# Altium integrated library Microchip Microcontroller 8-Bit PIC18.IntLib: 1312 symbols (part 10 of 56)
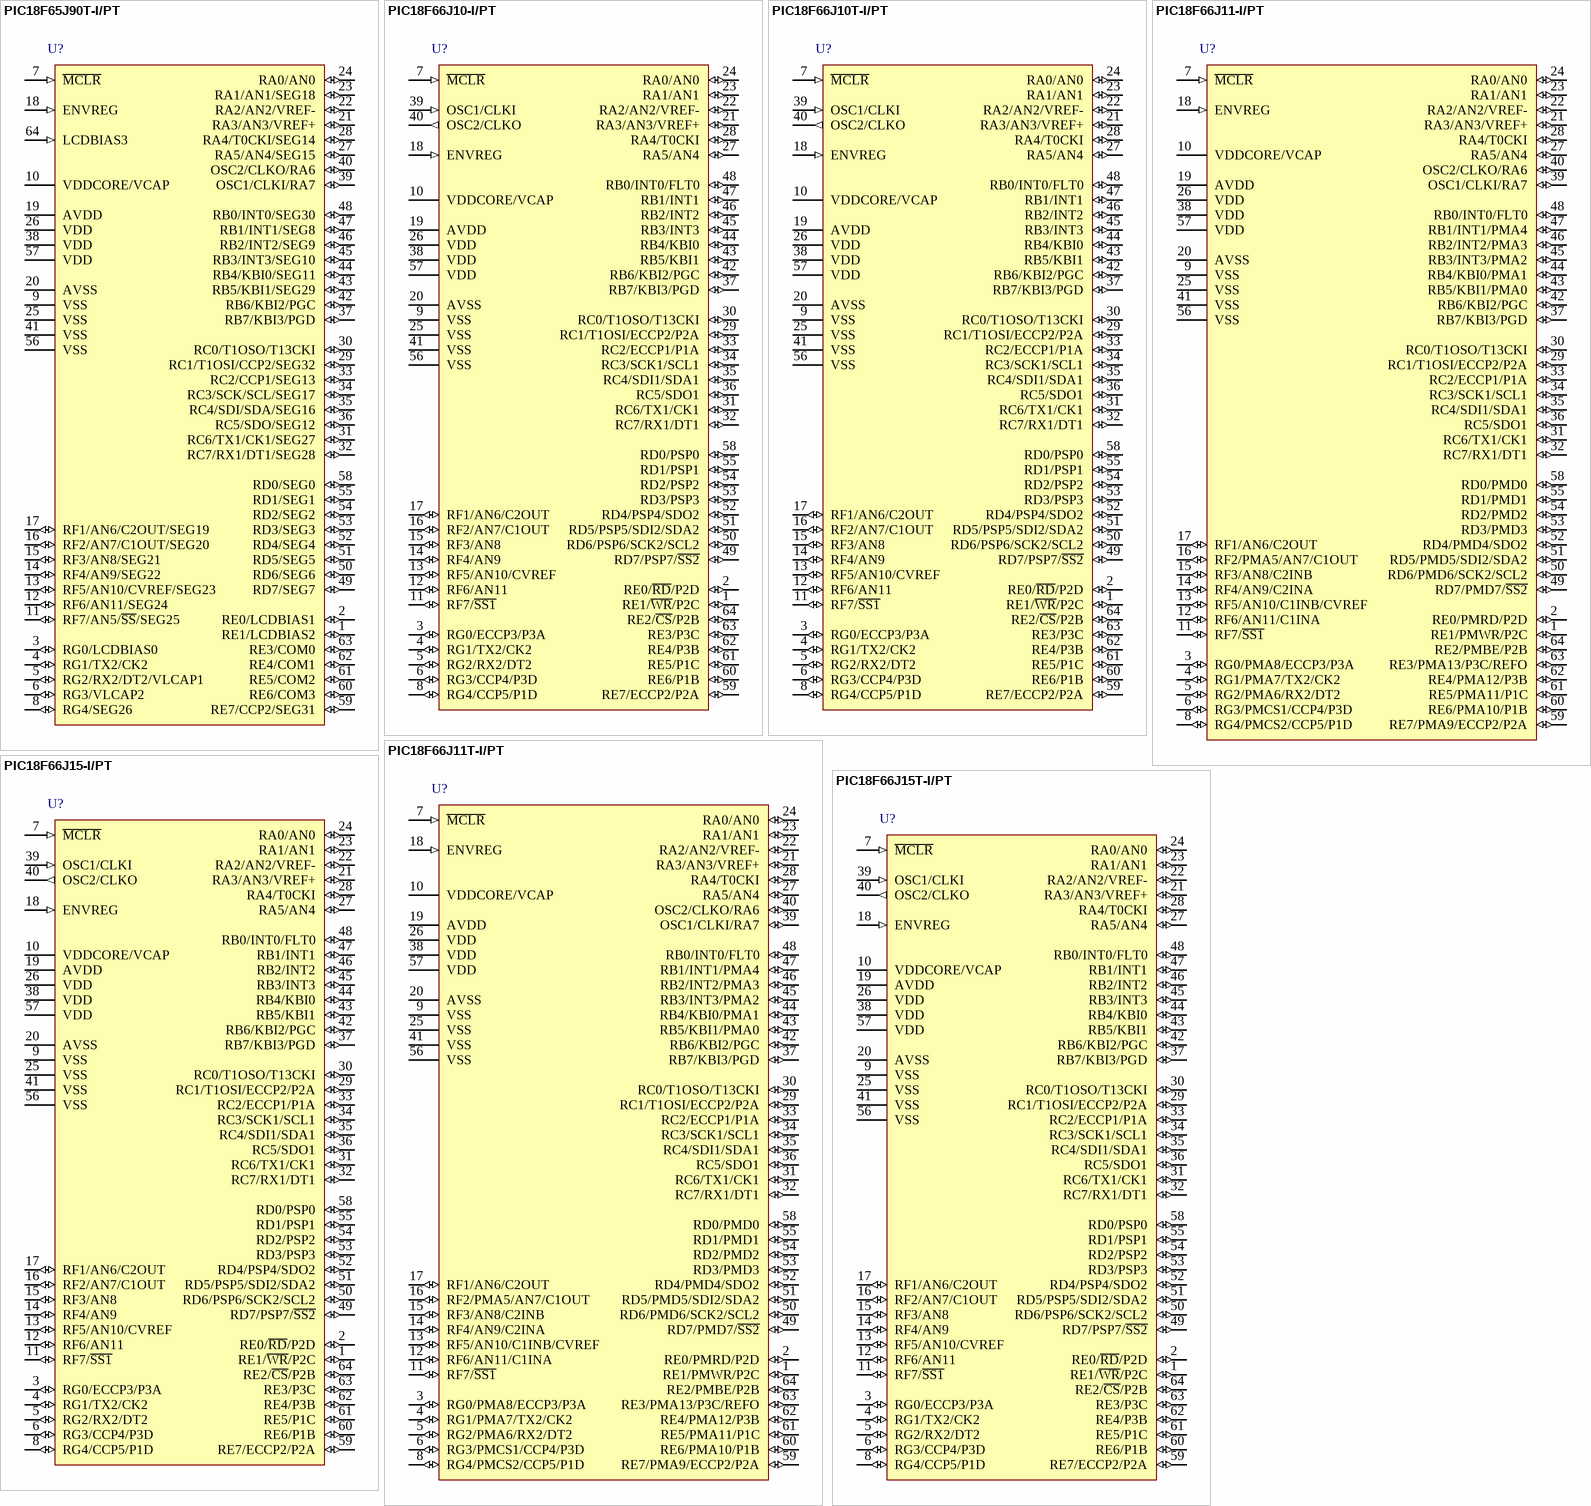
[diagram p158: symbols PIC18F65J90T-I/PT to PIC18F66J15T-I/PT]

## PIC18F65J90T-I/PT
designator U?
High Performance Microcontroller with LCD Driver and nanoWatt Technology, 32K Flash, 64-Pin TQFP, Industrial Temperature Range, Tape and Reel; Published: 29-Jan-2009; DatasheetVersion: revB, Mar-2007; PackageVersion: revBB, Aug-2009; PackageReference: TQFP-PT64; Publisher: Altium Limited; PackageDescription: 64-Lead Thin Plastic Quad Flat Pack (PT) - 10x10x1mm Body, 2.00mm [TQFP]; Supplier 1: Digi-Key; Supplier Part Number 1: PIC18F65J90T-I/PTTR-ND; Supplier 2: Farnell; Supplier Part Number 2: 1640088; Code_JEDEC: MS-026; ComponentLink1Description: Datasheet; ComponentLink1URL: http://ww1.microchip.com/downloads/en/DeviceDoc/39770b.pdf; ComponentLink2Description: Packaging Specification; ComponentLink2URL: http://www.microchip.com/stellent/groups/techpub_sg/documents/packagingspec/en012702.pdf; ComponentLink3Description: Microchip.com Home; ComponentLink3URL: http://www.microchip.com/
footprint TQFP-PT64_N (Thin QFP, 64-Leads, Body 10x10mm, Pitch 0.5mm, IPC Medium Density)
footprint TQFP-PT64_L (Thin QFP, 64-Leads, Body 10x10mm, Pitch 0.5mm, IPC High Density)
footprint TQFP-PT64_M (Thin QFP, 64-Leads, Body 10x10mm, Pitch 0.5mm, IPC Low Density)
pins: 1 RE1/LCDBIAS2 (io), 2 RE0/LCDBIAS1 (io), 3 RG0/LCDBIAS0 (io), 4 RG1/TX2/CK2 (io), 5 RG2/RX2/DT2/VLCAP1 (io), 6 RG3/VLCAP2 (io), 7 ~{MCLR} (in), 8 RG4/SEG26 (io), 9 VSS (power), 10 VDDCORE/VCAP (power), 11 RF7/AN5/~{SS}/SEG25 (io), 12 RF6/AN11/SEG24 (io), 13 RF5/AN10/CVREF/SEG23 (io), 14 RF4/AN9/SEG22 (io), 15 RF3/AN8/SEG21 (io), 16 RF2/AN7/C1OUT/SEG20 (io), 17 RF1/AN6/C2OUT/SEG19 (io), 18 ENVREG (in), 19 AVDD (power), 20 AVSS (power), 21 RA3/AN3/VREF+ (io), 22 RA2/AN2/VREF- (io), 23 RA1/AN1/SEG18 (io), 24 RA0/AN0 (io), 25 VSS (power), 26 VDD (power), 27 RA5/AN4/SEG15 (io), 28 RA4/T0CKI/SEG14 (io), 29 RC1/T1OSI/CCP2/SEG32 (io), 30 RC0/T1OSO/T13CKI (io), 31 RC6/TX1/CK1/SEG27 (io), 32 RC7/RX1/DT1/SEG28 (io), 33 RC2/CCP1/SEG13 (io), 34 RC3/SCK/SCL/SEG17 (io), 35 RC4/SDI/SDA/SEG16 (io), 36 RC5/SDO/SEG12 (io), 37 RB7/KBI3/PGD (io), 38 VDD (power), 39 OSC1/CLKI/RA7 (io), 40 OSC2/CLKO/RA6 (io), 41 VSS (power), 42 RB6/KBI2/PGC (io), 43 RB5/KBI1/SEG29 (io), 44 RB4/KBI0/SEG11 (io), 45 RB3/INT3/SEG10 (io), 46 RB2/INT2/SEG9 (io), 47 RB1/INT1/SEG8 (io), 48 RB0/INT0/SEG30 (io), 49 RD7/SEG7 (io), 50 RD6/SEG6 (io), 51 RD5/SEG5 (io), 52 RD4/SEG4 (io), 53 RD3/SEG3 (io), 54 RD2/SEG2 (io), 55 RD1/SEG1 (io), 56 VSS (power), 57 VDD (power), 58 RD0/SEG0 (io), 59 RE7/CCP2/SEG31 (io), 60 RE6/COM3 (io), 61 RE5/COM2 (io), 62 RE4/COM1 (io), 63 RE3/COM0 (io), 64 LCDBIAS3 (in)

## PIC18F66J10-I/PT
designator U?
High Performance, 1-Mbit Flash Microcontroller with nanoWatt Technology, 64K Flash, 64-Pin TQFP, Industrial Temperature Range; Published: 29-Jan-2009; LatestRevisionDate: 02-Dec-2009; LatestRevisionNote: Updated to datasheet revision F, Sep-2009; DatasheetVersion: revF, Sep-2009; PackageVersion: revBB, Aug-2009; PackageReference: TQFP-PT64; Publisher: Altium Limited; PackageDescription: 64-Lead Thin Plastic Quad Flat Pack (PT) - 10x10x1mm Body, 2.00mm [TQFP]; Supplier 1: Digi-Key; Supplier Part Number 1: PIC18F66J10-I/PT-ND; Supplier 2: Farnell; Supplier Part Number 2: 1332281; Code_JEDEC: MS-026; ComponentLink1Description: Datasheet; ComponentLink1URL: http://ww1.microchip.com/downloads/en/DeviceDoc/39663f.pdf; ComponentLink2Description: Packaging Specification; ComponentLink2URL: http://www.microchip.com/stellent/groups/techpub_sg/documents/packagingspec/en012702.pdf; ComponentLink3Description: Microchip.com Home; ComponentLink3URL: http://www.microchip.com/
footprint TQFP-PT64_N (Thin QFP, 64-Leads, Body 10x10mm, Pitch 0.5mm, IPC Medium Density)
footprint TQFP-PT64_L (Thin QFP, 64-Leads, Body 10x10mm, Pitch 0.5mm, IPC High Density)
footprint TQFP-PT64_M (Thin QFP, 64-Leads, Body 10x10mm, Pitch 0.5mm, IPC Low Density)
pins: 1 RE1/~{WR}/P2C (io), 2 RE0/~{RD}/P2D (io), 3 RG0/ECCP3/P3A (io), 4 RG1/TX2/CK2 (io), 5 RG2/RX2/DT2 (io), 6 RG3/CCP4/P3D (io), 7 ~{MCLR} (in), 8 RG4/CCP5/P1D (io), 9 VSS (power), 10 VDDCORE/VCAP (power), 11 RF7/~{SS1} (io), 12 RF6/AN11 (io), 13 RF5/AN10/CVREF (io), 14 RF4/AN9 (io), 15 RF3/AN8 (io), 16 RF2/AN7/C1OUT (io), 17 RF1/AN6/C2OUT (io), 18 ENVREG (in), 19 AVDD (power), 20 AVSS (power), 21 RA3/AN3/VREF+ (io), 22 RA2/AN2/VREF- (io), 23 RA1/AN1 (io), 24 RA0/AN0 (io), 25 VSS (power), 26 VDD (power), 27 RA5/AN4 (io), 28 RA4/T0CKI (io), 29 RC1/T1OSI/ECCP2/P2A (io), 30 RC0/T1OSO/T13CKI (io), 31 RC6/TX1/CK1 (io), 32 RC7/RX1/DT1 (io), 33 RC2/ECCP1/P1A (io), 34 RC3/SCK1/SCL1 (io), 35 RC4/SDI1/SDA1 (io), 36 RC5/SDO1 (io), 37 RB7/KBI3/PGD (io), 38 VDD (power), 39 OSC1/CLKI (in), 40 OSC2/CLKO (out), 41 VSS (power), 42 RB6/KBI2/PGC (io), 43 RB5/KBI1 (io), 44 RB4/KBI0 (io), 45 RB3/INT3 (io), 46 RB2/INT2 (io), 47 RB1/INT1 (io), 48 RB0/INT0/FLT0 (io), 49 RD7/PSP7/~{SS2} (io), 50 RD6/PSP6/SCK2/SCL2 (io), 51 RD5/PSP5/SDI2/SDA2 (io), 52 RD4/PSP4/SDO2 (io), 53 RD3/PSP3 (io), 54 RD2/PSP2 (io), 55 RD1/PSP1 (io), 56 VSS (power), 57 VDD (power), 58 RD0/PSP0 (io), 59 RE7/ECCP2/P2A (io), 60 RE6/P1B (io), 61 RE5/P1C (io), 62 RE4/P3B (io), 63 RE3/P3C (io), 64 RE2/~{CS}/P2B (io)

## PIC18F66J10T-I/PT
designator U?
High Performance, 1-Mbit Flash Microcontroller with nanoWatt Technology, 64K Flash, 64-Pin TQFP, Industrial Temperature Range, Tape and Reel; Published: 29-Jan-2009; LatestRevisionDate: 02-Dec-2009; LatestRevisionNote: Updated to datasheet revision F, Sep-2009; DatasheetVersion: revF, Sep-2009; PackageVersion: revBB, Aug-2009; PackageReference: TQFP-PT64; Publisher: Altium Limited; PackageDescription: 64-Lead Thin Plastic Quad Flat Pack (PT) - 10x10x1mm Body, 2.00mm [TQFP]; Supplier 1: Digi-Key; Supplier Part Number 1: PIC18F66J10T-I/PTTR-ND; Supplier 2: Digi-Key; Supplier Part Number 2: PIC18F66J10T-I/PTCT-ND; Code_JEDEC: MS-026; ComponentLink1Description: Datasheet; ComponentLink1URL: http://ww1.microchip.com/downloads/en/DeviceDoc/39663f.pdf; ComponentLink2Description: Packaging Specification; ComponentLink2URL: http://www.microchip.com/stellent/groups/techpub_sg/documents/packagingspec/en012702.pdf; ComponentLink3Description: Microchip.com Home; ComponentLink3URL: http://www.microchip.com/
footprint TQFP-PT64_N (Thin QFP, 64-Leads, Body 10x10mm, Pitch 0.5mm, IPC Medium Density)
footprint TQFP-PT64_L (Thin QFP, 64-Leads, Body 10x10mm, Pitch 0.5mm, IPC High Density)
footprint TQFP-PT64_M (Thin QFP, 64-Leads, Body 10x10mm, Pitch 0.5mm, IPC Low Density)
pins: 1 RE1/~{WR}/P2C (io), 2 RE0/~{RD}/P2D (io), 3 RG0/ECCP3/P3A (io), 4 RG1/TX2/CK2 (io), 5 RG2/RX2/DT2 (io), 6 RG3/CCP4/P3D (io), 7 ~{MCLR} (in), 8 RG4/CCP5/P1D (io), 9 VSS (power), 10 VDDCORE/VCAP (power), 11 RF7/~{SS1} (io), 12 RF6/AN11 (io), 13 RF5/AN10/CVREF (io), 14 RF4/AN9 (io), 15 RF3/AN8 (io), 16 RF2/AN7/C1OUT (io), 17 RF1/AN6/C2OUT (io), 18 ENVREG (in), 19 AVDD (power), 20 AVSS (power), 21 RA3/AN3/VREF+ (io), 22 RA2/AN2/VREF- (io), 23 RA1/AN1 (io), 24 RA0/AN0 (io), 25 VSS (power), 26 VDD (power), 27 RA5/AN4 (io), 28 RA4/T0CKI (io), 29 RC1/T1OSI/ECCP2/P2A (io), 30 RC0/T1OSO/T13CKI (io), 31 RC6/TX1/CK1 (io), 32 RC7/RX1/DT1 (io), 33 RC2/ECCP1/P1A (io), 34 RC3/SCK1/SCL1 (io), 35 RC4/SDI1/SDA1 (io), 36 RC5/SDO1 (io), 37 RB7/KBI3/PGD (io), 38 VDD (power), 39 OSC1/CLKI (in), 40 OSC2/CLKO (out), 41 VSS (power), 42 RB6/KBI2/PGC (io), 43 RB5/KBI1 (io), 44 RB4/KBI0 (io), 45 RB3/INT3 (io), 46 RB2/INT2 (io), 47 RB1/INT1 (io), 48 RB0/INT0/FLT0 (io), 49 RD7/PSP7/~{SS2} (io), 50 RD6/PSP6/SCK2/SCL2 (io), 51 RD5/PSP5/SDI2/SDA2 (io), 52 RD4/PSP4/SDO2 (io), 53 RD3/PSP3 (io), 54 RD2/PSP2 (io), 55 RD1/PSP1 (io), 56 VSS (power), 57 VDD (power), 58 RD0/PSP0 (io), 59 RE7/ECCP2/P2A (io), 60 RE6/P1B (io), 61 RE5/P1C (io), 62 RE4/P3B (io), 63 RE3/P3C (io), 64 RE2/~{CS}/P2B (io)

## PIC18F66J11-I/PT
designator U?
High Performance, 1-Mbit Flash Microcontroller with nanoWatt Technology, 64K Flash, 64-Pin TQFP, Industrial Temperature Range; Published: 29-Jan-2009; LatestRevisionDate: 02-Dec-2009; LatestRevisionNote: Updated to datasheet revision D, Oct-2009; DatasheetVersion: revD, Oct-2009; PackageVersion: revBB, Aug-2009; PackageReference: TQFP-PT64; Publisher: Altium Limited; PackageDescription: 64-Lead Thin Plastic Quad Flat Pack (PT) - 10x10x1mm Body, 2.00mm [TQFP]; Supplier 1: Digi-Key; Supplier Part Number 1: PIC18F66J11-I/PT-ND; Code_JEDEC: MS-026; ComponentLink1Description: Datasheet; ComponentLink1URL: http://ww1.microchip.com/downloads/en/DeviceDoc/39778d.pdf; ComponentLink2Description: Packaging Specification; ComponentLink2URL: http://www.microchip.com/stellent/groups/techpub_sg/documents/packagingspec/en012702.pdf; ComponentLink3Description: Microchip.com Home; ComponentLink3URL: http://www.microchip.com/
footprint TQFP-PT64_N (Thin QFP, 64-Leads, Body 10x10mm, Pitch 0.5mm, IPC Medium Density)
footprint TQFP-PT64_L (Thin QFP, 64-Leads, Body 10x10mm, Pitch 0.5mm, IPC High Density)
footprint TQFP-PT64_M (Thin QFP, 64-Leads, Body 10x10mm, Pitch 0.5mm, IPC Low Density)
pins: 1 RE1/PMWR/P2C (io), 2 RE0/PMRD/P2D (io), 3 RG0/PMA8/ECCP3/P3A (io), 4 RG1/PMA7/TX2/CK2 (io), 5 RG2/PMA6/RX2/DT2 (io), 6 RG3/PMCS1/CCP4/P3D (io), 7 ~{MCLR} (in), 8 RG4/PMCS2/CCP5/P1D (io), 9 VSS (power), 10 VDDCORE/VCAP (power), 11 RF7/~{SS1} (io), 12 RF6/AN11/C1INA (io), 13 RF5/AN10/C1INB/CVREF (io), 14 RF4/AN9/C2INA (io), 15 RF3/AN8/C2INB (io), 16 RF2/PMA5/AN7/C1OUT (io), 17 RF1/AN6/C2OUT (io), 18 ENVREG (in), 19 AVDD (power), 20 AVSS (power), 21 RA3/AN3/VREF+ (io), 22 RA2/AN2/VREF- (io), 23 RA1/AN1 (io), 24 RA0/AN0 (io), 25 VSS (power), 26 VDD (power), 27 RA5/AN4 (io), 28 RA4/T0CKI (io), 29 RC1/T1OSI/ECCP2/P2A (io), 30 RC0/T1OSO/T13CKI (io), 31 RC6/TX1/CK1 (io), 32 RC7/RX1/DT1 (io), 33 RC2/ECCP1/P1A (io), 34 RC3/SCK1/SCL1 (io), 35 RC4/SDI1/SDA1 (io), 36 RC5/SDO1 (io), 37 RB7/KBI3/PGD (io), 38 VDD (power), 39 OSC1/CLKI/RA7 (io), 40 OSC2/CLKO/RA6 (io), 41 VSS (power), 42 RB6/KBI2/PGC (io), 43 RB5/KBI1/PMA0 (io), 44 RB4/KBI0/PMA1 (io), 45 RB3/INT3/PMA2 (io), 46 RB2/INT2/PMA3 (io), 47 RB1/INT1/PMA4 (io), 48 RB0/INT0/FLT0 (io), 49 RD7/PMD7/~{SS2} (io), 50 RD6/PMD6/SCK2/SCL2 (io), 51 RD5/PMD5/SDI2/SDA2 (io), 52 RD4/PMD4/SDO2 (io), 53 RD3/PMD3 (io), 54 RD2/PMD2 (io), 55 RD1/PMD1 (io), 56 VSS (power), 57 VDD (power), 58 RD0/PMD0 (io), 59 RE7/PMA9/ECCP2/P2A (io), 60 RE6/PMA10/P1B (io), 61 RE5/PMA11/P1C (io), 62 RE4/PMA12/P3B (io), 63 RE3/PMA13/P3C/REFO (io), 64 RE2/PMBE/P2B (io)

## PIC18F66J11T-I/PT
designator U?
High Performance, 1-Mbit Flash Microcontroller with nanoWatt Technology, 64K Flash, 64-Pin TQFP, Industrial Temperature Range, Tape and Reel; Published: 29-Jan-2009; LatestRevisionDate: 02-Dec-2009; LatestRevisionNote: Updated to datasheet revision D, Oct-2009; DatasheetVersion: revD, Oct-2009; PackageVersion: revBB, Aug-2009; PackageReference: TQFP-PT64; Publisher: Altium Limited; PackageDescription: 64-Lead Thin Plastic Quad Flat Pack (PT) - 10x10x1mm Body, 2.00mm [TQFP]; Supplier 1: Digi-Key; Supplier Part Number 1: PIC18F66J11T-I/PTTR-ND; Supplier 2: Farnell; Supplier Part Number 2: 1439554; Code_JEDEC: MS-026; ComponentLink1Description: Datasheet; ComponentLink1URL: http://ww1.microchip.com/downloads/en/DeviceDoc/39778d.pdf; ComponentLink2Description: Packaging Specification; ComponentLink2URL: http://www.microchip.com/stellent/groups/techpub_sg/documents/packagingspec/en012702.pdf; ComponentLink3Description: Microchip.com Home; ComponentLink3URL: http://www.microchip.com/
footprint TQFP-PT64_N (Thin QFP, 64-Leads, Body 10x10mm, Pitch 0.5mm, IPC Medium Density)
footprint TQFP-PT64_L (Thin QFP, 64-Leads, Body 10x10mm, Pitch 0.5mm, IPC High Density)
footprint TQFP-PT64_M (Thin QFP, 64-Leads, Body 10x10mm, Pitch 0.5mm, IPC Low Density)
pins: 1 RE1/PMWR/P2C (io), 2 RE0/PMRD/P2D (io), 3 RG0/PMA8/ECCP3/P3A (io), 4 RG1/PMA7/TX2/CK2 (io), 5 RG2/PMA6/RX2/DT2 (io), 6 RG3/PMCS1/CCP4/P3D (io), 7 ~{MCLR} (in), 8 RG4/PMCS2/CCP5/P1D (io), 9 VSS (power), 10 VDDCORE/VCAP (power), 11 RF7/~{SS1} (io), 12 RF6/AN11/C1INA (io), 13 RF5/AN10/C1INB/CVREF (io), 14 RF4/AN9/C2INA (io), 15 RF3/AN8/C2INB (io), 16 RF2/PMA5/AN7/C1OUT (io), 17 RF1/AN6/C2OUT (io), 18 ENVREG (in), 19 AVDD (power), 20 AVSS (power), 21 RA3/AN3/VREF+ (io), 22 RA2/AN2/VREF- (io), 23 RA1/AN1 (io), 24 RA0/AN0 (io), 25 VSS (power), 26 VDD (power), 27 RA5/AN4 (io), 28 RA4/T0CKI (io), 29 RC1/T1OSI/ECCP2/P2A (io), 30 RC0/T1OSO/T13CKI (io), 31 RC6/TX1/CK1 (io), 32 RC7/RX1/DT1 (io), 33 RC2/ECCP1/P1A (io), 34 RC3/SCK1/SCL1 (io), 35 RC4/SDI1/SDA1 (io), 36 RC5/SDO1 (io), 37 RB7/KBI3/PGD (io), 38 VDD (power), 39 OSC1/CLKI/RA7 (io), 40 OSC2/CLKO/RA6 (io), 41 VSS (power), 42 RB6/KBI2/PGC (io), 43 RB5/KBI1/PMA0 (io), 44 RB4/KBI0/PMA1 (io), 45 RB3/INT3/PMA2 (io), 46 RB2/INT2/PMA3 (io), 47 RB1/INT1/PMA4 (io), 48 RB0/INT0/FLT0 (io), 49 RD7/PMD7/~{SS2} (io), 50 RD6/PMD6/SCK2/SCL2 (io), 51 RD5/PMD5/SDI2/SDA2 (io), 52 RD4/PMD4/SDO2 (io), 53 RD3/PMD3 (io), 54 RD2/PMD2 (io), 55 RD1/PMD1 (io), 56 VSS (power), 57 VDD (power), 58 RD0/PMD0 (io), 59 RE7/PMA9/ECCP2/P2A (io), 60 RE6/PMA10/P1B (io), 61 RE5/PMA11/P1C (io), 62 RE4/PMA12/P3B (io), 63 RE3/PMA13/P3C/REFO (io), 64 RE2/PMBE/P2B (io)

## PIC18F66J15-I/PT
designator U?
High Performance, 1-Mbit Flash Microcontroller with nanoWatt Technology, 96K Flash, 64-Pin TQFP, Industrial Temperature Range; Published: 29-Jan-2009; LatestRevisionDate: 02-Dec-2009; LatestRevisionNote: Updated to datasheet revision F, Sep-2009; DatasheetVersion: revF, Sep-2009; PackageVersion: revBB, Aug-2009; PackageReference: TQFP-PT64; Publisher: Altium Limited; PackageDescription: 64-Lead Thin Plastic Quad Flat Pack (PT) - 10x10x1mm Body, 2.00mm [TQFP]; Supplier 1: Digi-Key; Supplier Part Number 1: PIC18F66J15-I/PT-ND; Supplier 2: Farnell; Supplier Part Number 2: 1556181; Code_JEDEC: MS-026; ComponentLink1Description: Datasheet; ComponentLink1URL: http://ww1.microchip.com/downloads/en/DeviceDoc/39663f.pdf; ComponentLink2Description: Packaging Specification; ComponentLink2URL: http://www.microchip.com/stellent/groups/techpub_sg/documents/packagingspec/en012702.pdf; ComponentLink3Description: Microchip.com Home; ComponentLink3URL: http://www.microchip.com/
footprint TQFP-PT64_N (Thin QFP, 64-Leads, Body 10x10mm, Pitch 0.5mm, IPC Medium Density)
footprint TQFP-PT64_L (Thin QFP, 64-Leads, Body 10x10mm, Pitch 0.5mm, IPC High Density)
footprint TQFP-PT64_M (Thin QFP, 64-Leads, Body 10x10mm, Pitch 0.5mm, IPC Low Density)
pins: 1 RE1/~{WR}/P2C (io), 2 RE0/~{RD}/P2D (io), 3 RG0/ECCP3/P3A (io), 4 RG1/TX2/CK2 (io), 5 RG2/RX2/DT2 (io), 6 RG3/CCP4/P3D (io), 7 ~{MCLR} (in), 8 RG4/CCP5/P1D (io), 9 VSS (power), 10 VDDCORE/VCAP (power), 11 RF7/~{SS1} (io), 12 RF6/AN11 (io), 13 RF5/AN10/CVREF (io), 14 RF4/AN9 (io), 15 RF3/AN8 (io), 16 RF2/AN7/C1OUT (io), 17 RF1/AN6/C2OUT (io), 18 ENVREG (in), 19 AVDD (power), 20 AVSS (power), 21 RA3/AN3/VREF+ (io), 22 RA2/AN2/VREF- (io), 23 RA1/AN1 (io), 24 RA0/AN0 (io), 25 VSS (power), 26 VDD (power), 27 RA5/AN4 (io), 28 RA4/T0CKI (io), 29 RC1/T1OSI/ECCP2/P2A (io), 30 RC0/T1OSO/T13CKI (io), 31 RC6/TX1/CK1 (io), 32 RC7/RX1/DT1 (io), 33 RC2/ECCP1/P1A (io), 34 RC3/SCK1/SCL1 (io), 35 RC4/SDI1/SDA1 (io), 36 RC5/SDO1 (io), 37 RB7/KBI3/PGD (io), 38 VDD (power), 39 OSC1/CLKI (in), 40 OSC2/CLKO (out), 41 VSS (power), 42 RB6/KBI2/PGC (io), 43 RB5/KBI1 (io), 44 RB4/KBI0 (io), 45 RB3/INT3 (io), 46 RB2/INT2 (io), 47 RB1/INT1 (io), 48 RB0/INT0/FLT0 (io), 49 RD7/PSP7/~{SS2} (io), 50 RD6/PSP6/SCK2/SCL2 (io), 51 RD5/PSP5/SDI2/SDA2 (io), 52 RD4/PSP4/SDO2 (io), 53 RD3/PSP3 (io), 54 RD2/PSP2 (io), 55 RD1/PSP1 (io), 56 VSS (power), 57 VDD (power), 58 RD0/PSP0 (io), 59 RE7/ECCP2/P2A (io), 60 RE6/P1B (io), 61 RE5/P1C (io), 62 RE4/P3B (io), 63 RE3/P3C (io), 64 RE2/~{CS}/P2B (io)

## PIC18F66J15T-I/PT
designator U?
High Performance, 1-Mbit Flash Microcontroller with nanoWatt Technology, 96K Flash, 64-Pin TQFP, Industrial Temperature Range, Tape and Reel; Published: 29-Jan-2009; LatestRevisionDate: 02-Dec-2009; LatestRevisionNote: Updated to datasheet revision F, Sep-2009; DatasheetVersion: revF, Sep-2009; PackageVersion: revBB, Aug-2009; PackageReference: TQFP-PT64; Publisher: Altium Limited; PackageDescription: 64-Lead Thin Plastic Quad Flat Pack (PT) - 10x10x1mm Body, 2.00mm [TQFP]; Supplier 1: Digi-Key; Supplier Part Number 1: PIC18F66J15T-I/PTTR-ND; Supplier 2: Digi-Key; Supplier Part Number 2: PIC18F66J15T-I/PTCT-ND; Code_JEDEC: MS-026; ComponentLink1Description: Datasheet; ComponentLink1URL: http://ww1.microchip.com/downloads/en/DeviceDoc/39663f.pdf; ComponentLink2Description: Packaging Specification; ComponentLink2URL: http://www.microchip.com/stellent/groups/techpub_sg/documents/packagingspec/en012702.pdf; ComponentLink3Description: Microchip.com Home; ComponentLink3URL: http://www.microchip.com/
footprint TQFP-PT64_N (Thin QFP, 64-Leads, Body 10x10mm, Pitch 0.5mm, IPC Medium Density)
footprint TQFP-PT64_L (Thin QFP, 64-Leads, Body 10x10mm, Pitch 0.5mm, IPC High Density)
footprint TQFP-PT64_M (Thin QFP, 64-Leads, Body 10x10mm, Pitch 0.5mm, IPC Low Density)
pins: 1 RE1/~{WR}/P2C (io), 2 RE0/~{RD}/P2D (io), 3 RG0/ECCP3/P3A (io), 4 RG1/TX2/CK2 (io), 5 RG2/RX2/DT2 (io), 6 RG3/CCP4/P3D (io), 7 ~{MCLR} (in), 8 RG4/CCP5/P1D (io), 9 VSS (power), 10 VDDCORE/VCAP (power), 11 RF7/~{SS1} (io), 12 RF6/AN11 (io), 13 RF5/AN10/CVREF (io), 14 RF4/AN9 (io), 15 RF3/AN8 (io), 16 RF2/AN7/C1OUT (io), 17 RF1/AN6/C2OUT (io), 18 ENVREG (in), 19 AVDD (power), 20 AVSS (power), 21 RA3/AN3/VREF+ (io), 22 RA2/AN2/VREF- (io), 23 RA1/AN1 (io), 24 RA0/AN0 (io), 25 VSS (power), 26 VDD (power), 27 RA5/AN4 (io), 28 RA4/T0CKI (io), 29 RC1/T1OSI/ECCP2/P2A (io), 30 RC0/T1OSO/T13CKI (io), 31 RC6/TX1/CK1 (io), 32 RC7/RX1/DT1 (io), 33 RC2/ECCP1/P1A (io), 34 RC3/SCK1/SCL1 (io), 35 RC4/SDI1/SDA1 (io), 36 RC5/SDO1 (io), 37 RB7/KBI3/PGD (io), 38 VDD (power), 39 OSC1/CLKI (in), 40 OSC2/CLKO (out), 41 VSS (power), 42 RB6/KBI2/PGC (io), 43 RB5/KBI1 (io), 44 RB4/KBI0 (io), 45 RB3/INT3 (io), 46 RB2/INT2 (io), 47 RB1/INT1 (io), 48 RB0/INT0/FLT0 (io), 49 RD7/PSP7/~{SS2} (io), 50 RD6/PSP6/SCK2/SCL2 (io), 51 RD5/PSP5/SDI2/SDA2 (io), 52 RD4/PSP4/SDO2 (io), 53 RD3/PSP3 (io), 54 RD2/PSP2 (io), 55 RD1/PSP1 (io), 56 VSS (power), 57 VDD (power), 58 RD0/PSP0 (io), 59 RE7/ECCP2/P2A (io), 60 RE6/P1B (io), 61 RE5/P1C (io), 62 RE4/P3B (io), 63 RE3/P3C (io), 64 RE2/~{CS}/P2B (io)

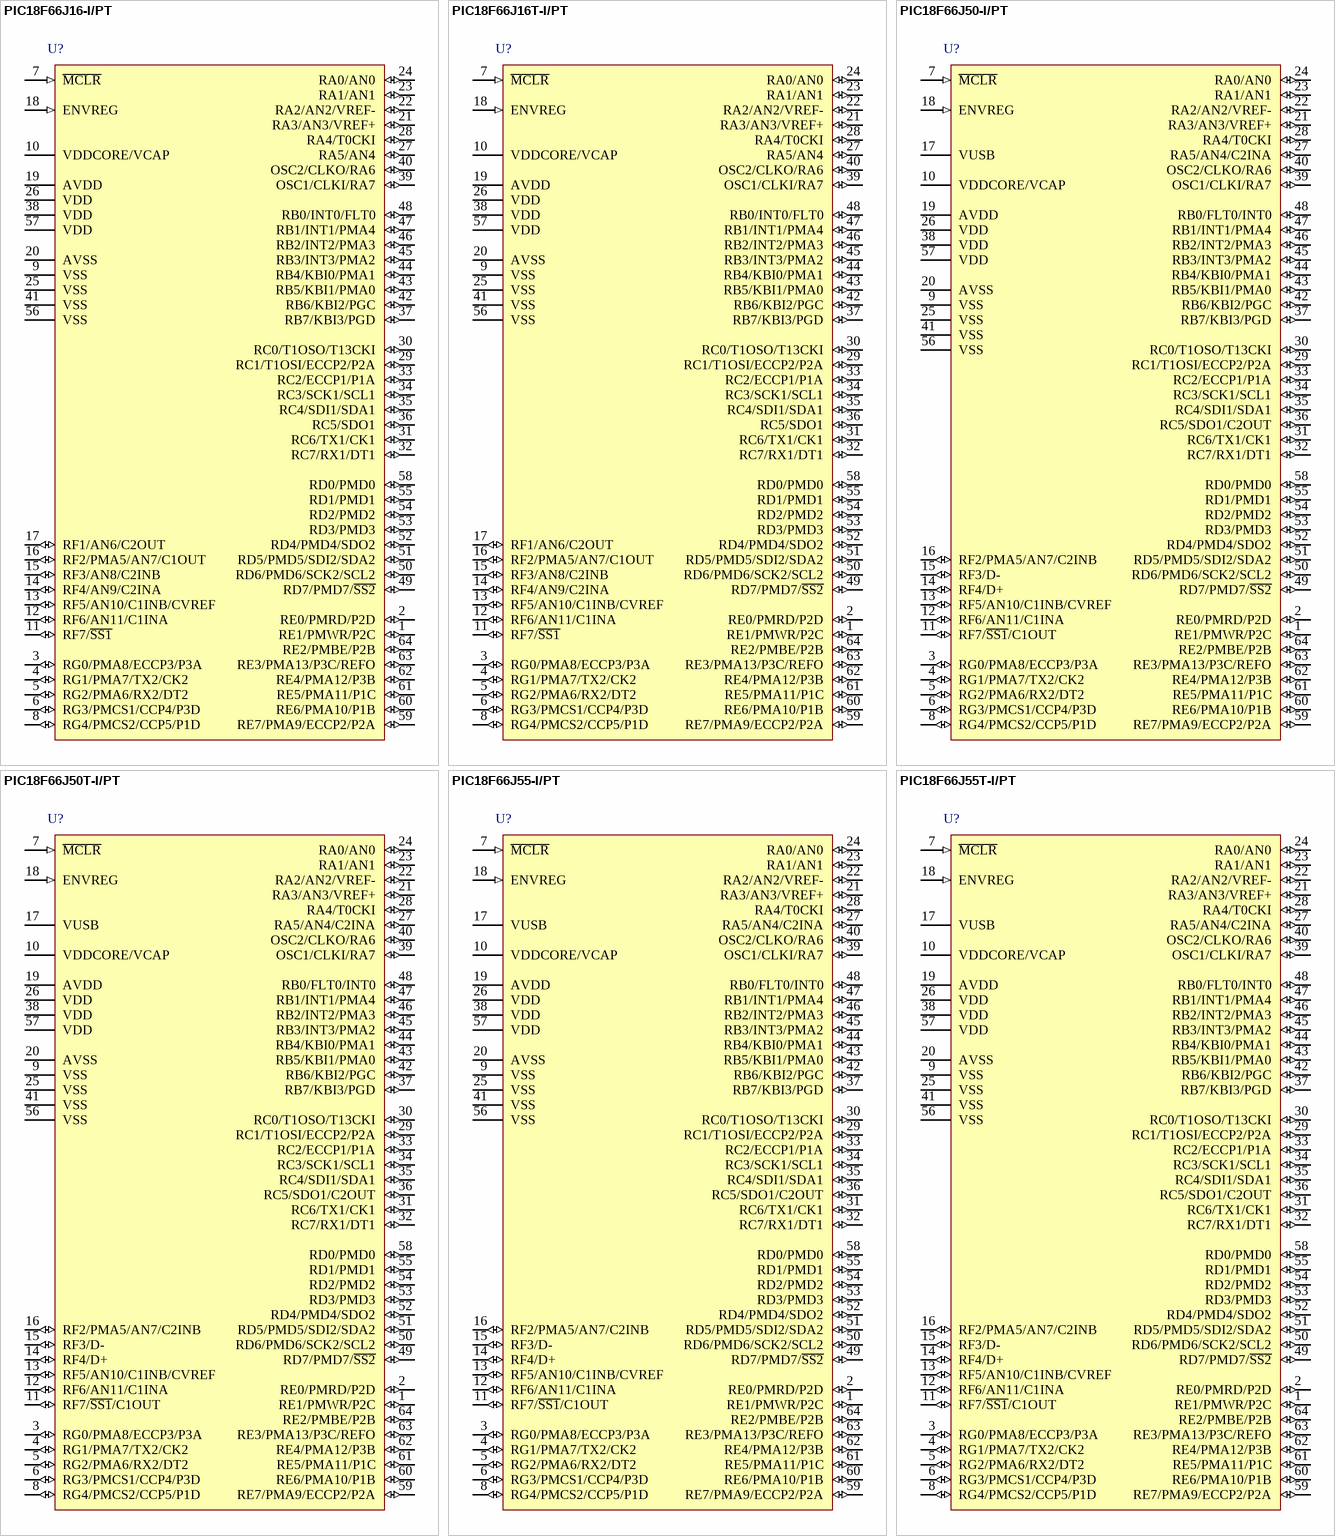
[diagram p24: symbols PIC18F66J16-I/PT to PIC18F66J55T-I/PT]

## PIC18F66J16-I/PT
designator U?
High Performance, 1-Mbit Flash Microcontroller with nanoWatt Technology, 96K Flash, 64-Pin TQFP, Industrial Temperature Range; Published: 29-Jan-2009; LatestRevisionDate: 02-Dec-2009; LatestRevisionNote: Updated to datasheet revision D, Oct-2009; DatasheetVersion: revD, Oct-2009; PackageVersion: revBB, Aug-2009; PackageReference: TQFP-PT64; Publisher: Altium Limited; PackageDescription: 64-Lead Thin Plastic Quad Flat Pack (PT) - 10x10x1mm Body, 2.00mm [TQFP]; Supplier 1: Digi-Key; Supplier Part Number 1: PIC18F66J16-I/PT-ND; Code_JEDEC: MS-026; ComponentLink1Description: Datasheet; ComponentLink1URL: http://ww1.microchip.com/downloads/en/DeviceDoc/39778d.pdf; ComponentLink2Description: Packaging Specification; ComponentLink2URL: http://www.microchip.com/stellent/groups/techpub_sg/documents/packagingspec/en012702.pdf; ComponentLink3Description: Microchip.com Home; ComponentLink3URL: http://www.microchip.com/
footprint TQFP-PT64_N (Thin QFP, 64-Leads, Body 10x10mm, Pitch 0.5mm, IPC Medium Density)
footprint TQFP-PT64_L (Thin QFP, 64-Leads, Body 10x10mm, Pitch 0.5mm, IPC High Density)
footprint TQFP-PT64_M (Thin QFP, 64-Leads, Body 10x10mm, Pitch 0.5mm, IPC Low Density)
pins: 1 RE1/PMWR/P2C (io), 2 RE0/PMRD/P2D (io), 3 RG0/PMA8/ECCP3/P3A (io), 4 RG1/PMA7/TX2/CK2 (io), 5 RG2/PMA6/RX2/DT2 (io), 6 RG3/PMCS1/CCP4/P3D (io), 7 ~{MCLR} (in), 8 RG4/PMCS2/CCP5/P1D (io), 9 VSS (power), 10 VDDCORE/VCAP (power), 11 RF7/~{SS1} (io), 12 RF6/AN11/C1INA (io), 13 RF5/AN10/C1INB/CVREF (io), 14 RF4/AN9/C2INA (io), 15 RF3/AN8/C2INB (io), 16 RF2/PMA5/AN7/C1OUT (io), 17 RF1/AN6/C2OUT (io), 18 ENVREG (in), 19 AVDD (power), 20 AVSS (power), 21 RA3/AN3/VREF+ (io), 22 RA2/AN2/VREF- (io), 23 RA1/AN1 (io), 24 RA0/AN0 (io), 25 VSS (power), 26 VDD (power), 27 RA5/AN4 (io), 28 RA4/T0CKI (io), 29 RC1/T1OSI/ECCP2/P2A (io), 30 RC0/T1OSO/T13CKI (io), 31 RC6/TX1/CK1 (io), 32 RC7/RX1/DT1 (io), 33 RC2/ECCP1/P1A (io), 34 RC3/SCK1/SCL1 (io), 35 RC4/SDI1/SDA1 (io), 36 RC5/SDO1 (io), 37 RB7/KBI3/PGD (io), 38 VDD (power), 39 OSC1/CLKI/RA7 (io), 40 OSC2/CLKO/RA6 (io), 41 VSS (power), 42 RB6/KBI2/PGC (io), 43 RB5/KBI1/PMA0 (io), 44 RB4/KBI0/PMA1 (io), 45 RB3/INT3/PMA2 (io), 46 RB2/INT2/PMA3 (io), 47 RB1/INT1/PMA4 (io), 48 RB0/INT0/FLT0 (io), 49 RD7/PMD7/~{SS2} (io), 50 RD6/PMD6/SCK2/SCL2 (io), 51 RD5/PMD5/SDI2/SDA2 (io), 52 RD4/PMD4/SDO2 (io), 53 RD3/PMD3 (io), 54 RD2/PMD2 (io), 55 RD1/PMD1 (io), 56 VSS (power), 57 VDD (power), 58 RD0/PMD0 (io), 59 RE7/PMA9/ECCP2/P2A (io), 60 RE6/PMA10/P1B (io), 61 RE5/PMA11/P1C (io), 62 RE4/PMA12/P3B (io), 63 RE3/PMA13/P3C/REFO (io), 64 RE2/PMBE/P2B (io)

## PIC18F66J16T-I/PT
designator U?
High Performance, 1-Mbit Flash Microcontroller with nanoWatt Technology, 96K Flash, 64-Pin TQFP, Industrial Temperature Range, Tape and Reel; Published: 29-Jan-2009; LatestRevisionDate: 02-Dec-2009; LatestRevisionNote: Updated to datasheet revision D, Oct-2009; DatasheetVersion: revD, Oct-2009; PackageVersion: revBB, Aug-2009; PackageReference: TQFP-PT64; Publisher: Altium Limited; PackageDescription: 64-Lead Thin Plastic Quad Flat Pack (PT) - 10x10x1mm Body, 2.00mm [TQFP]; Supplier 1: Digi-Key; Supplier Part Number 1: PIC18F66J16T-I/PTTR-ND; Code_JEDEC: MS-026; ComponentLink1Description: Datasheet; ComponentLink1URL: http://ww1.microchip.com/downloads/en/DeviceDoc/39778d.pdf; ComponentLink2Description: Packaging Specification; ComponentLink2URL: http://www.microchip.com/stellent/groups/techpub_sg/documents/packagingspec/en012702.pdf; ComponentLink3Description: Microchip.com Home; ComponentLink3URL: http://www.microchip.com/
footprint TQFP-PT64_N (Thin QFP, 64-Leads, Body 10x10mm, Pitch 0.5mm, IPC Medium Density)
footprint TQFP-PT64_L (Thin QFP, 64-Leads, Body 10x10mm, Pitch 0.5mm, IPC High Density)
footprint TQFP-PT64_M (Thin QFP, 64-Leads, Body 10x10mm, Pitch 0.5mm, IPC Low Density)
pins: 1 RE1/PMWR/P2C (io), 2 RE0/PMRD/P2D (io), 3 RG0/PMA8/ECCP3/P3A (io), 4 RG1/PMA7/TX2/CK2 (io), 5 RG2/PMA6/RX2/DT2 (io), 6 RG3/PMCS1/CCP4/P3D (io), 7 ~{MCLR} (in), 8 RG4/PMCS2/CCP5/P1D (io), 9 VSS (power), 10 VDDCORE/VCAP (power), 11 RF7/~{SS1} (io), 12 RF6/AN11/C1INA (io), 13 RF5/AN10/C1INB/CVREF (io), 14 RF4/AN9/C2INA (io), 15 RF3/AN8/C2INB (io), 16 RF2/PMA5/AN7/C1OUT (io), 17 RF1/AN6/C2OUT (io), 18 ENVREG (in), 19 AVDD (power), 20 AVSS (power), 21 RA3/AN3/VREF+ (io), 22 RA2/AN2/VREF- (io), 23 RA1/AN1 (io), 24 RA0/AN0 (io), 25 VSS (power), 26 VDD (power), 27 RA5/AN4 (io), 28 RA4/T0CKI (io), 29 RC1/T1OSI/ECCP2/P2A (io), 30 RC0/T1OSO/T13CKI (io), 31 RC6/TX1/CK1 (io), 32 RC7/RX1/DT1 (io), 33 RC2/ECCP1/P1A (io), 34 RC3/SCK1/SCL1 (io), 35 RC4/SDI1/SDA1 (io), 36 RC5/SDO1 (io), 37 RB7/KBI3/PGD (io), 38 VDD (power), 39 OSC1/CLKI/RA7 (io), 40 OSC2/CLKO/RA6 (io), 41 VSS (power), 42 RB6/KBI2/PGC (io), 43 RB5/KBI1/PMA0 (io), 44 RB4/KBI0/PMA1 (io), 45 RB3/INT3/PMA2 (io), 46 RB2/INT2/PMA3 (io), 47 RB1/INT1/PMA4 (io), 48 RB0/INT0/FLT0 (io), 49 RD7/PMD7/~{SS2} (io), 50 RD6/PMD6/SCK2/SCL2 (io), 51 RD5/PMD5/SDI2/SDA2 (io), 52 RD4/PMD4/SDO2 (io), 53 RD3/PMD3 (io), 54 RD2/PMD2 (io), 55 RD1/PMD1 (io), 56 VSS (power), 57 VDD (power), 58 RD0/PMD0 (io), 59 RE7/PMA9/ECCP2/P2A (io), 60 RE6/PMA10/P1B (io), 61 RE5/PMA11/P1C (io), 62 RE4/PMA12/P3B (io), 63 RE3/PMA13/P3C/REFO (io), 64 RE2/PMBE/P2B (io)

## PIC18F66J50-I/PT
designator U?
High Performance, 1-Mbit Flash USB Microcontroller with nanoWatt Technology, 64K Flash, 64-Pin TQFP, Industrial Temperature Range; Published: 29-Jan-2009; LatestRevisionDate: 02-Dec-2009; LatestRevisionNote: Updated to datesheet revision C, Oct-2009; DatasheetVersion: revC, Oct-2009; PackageVersion: revBB, Aug-2009; PackageReference: TQFP-PT64; Publisher: Altium Limited; PackageDescription: 64-Lead Thin Plastic Quad Flat Pack (PT) - 10x10x1mm Body, 2.00mm [TQFP]; Supplier 1: Digi-Key; Supplier Part Number 1: PIC18F66J50-I/PT-ND; Supplier 2: Farnell; Supplier Part Number 2: 1439555; Code_JEDEC: MS-026; ComponentLink1Description: Datasheet; ComponentLink1URL: http://ww1.microchip.com/downloads/en/DeviceDoc/39775c.pdf; ComponentLink2Description: Packaging Specification; ComponentLink2URL: http://www.microchip.com/stellent/groups/techpub_sg/documents/packagingspec/en012702.pdf; ComponentLink3Description: Microchip.com Home; ComponentLink3URL: http://www.microchip.com/
footprint TQFP-PT64_N (Thin QFP, 64-Leads, Body 10x10mm, Pitch 0.5mm, IPC Medium Density)
footprint TQFP-PT64_L (Thin QFP, 64-Leads, Body 10x10mm, Pitch 0.5mm, IPC High Density)
footprint TQFP-PT64_M (Thin QFP, 64-Leads, Body 10x10mm, Pitch 0.5mm, IPC Low Density)
pins: 1 RE1/PMWR/P2C (io), 2 RE0/PMRD/P2D (io), 3 RG0/PMA8/ECCP3/P3A (io), 4 RG1/PMA7/TX2/CK2 (io), 5 RG2/PMA6/RX2/DT2 (io), 6 RG3/PMCS1/CCP4/P3D (io), 7 ~{MCLR} (in), 8 RG4/PMCS2/CCP5/P1D (io), 9 VSS (power), 10 VDDCORE/VCAP (power), 11 RF7/~{SS1}/C1OUT (io), 12 RF6/AN11/C1INA (io), 13 RF5/AN10/C1INB/CVREF (io), 14 RF4/D+ (io), 15 RF3/D- (io), 16 RF2/PMA5/AN7/C2INB (io), 17 VUSB (power), 18 ENVREG (in), 19 AVDD (power), 20 AVSS (power), 21 RA3/AN3/VREF+ (io), 22 RA2/AN2/VREF- (io), 23 RA1/AN1 (io), 24 RA0/AN0 (io), 25 VSS (power), 26 VDD (power), 27 RA5/AN4/C2INA (io), 28 RA4/T0CKI (io), 29 RC1/T1OSI/ECCP2/P2A (io), 30 RC0/T1OSO/T13CKI (io), 31 RC6/TX1/CK1 (io), 32 RC7/RX1/DT1 (io), 33 RC2/ECCP1/P1A (io), 34 RC3/SCK1/SCL1 (io), 35 RC4/SDI1/SDA1 (io), 36 RC5/SDO1/C2OUT (io), 37 RB7/KBI3/PGD (io), 38 VDD (power), 39 OSC1/CLKI/RA7 (io), 40 OSC2/CLKO/RA6 (io), 41 VSS (power), 42 RB6/KBI2/PGC (io), 43 RB5/KBI1/PMA0 (io), 44 RB4/KBI0/PMA1 (io), 45 RB3/INT3/PMA2 (io), 46 RB2/INT2/PMA3 (io), 47 RB1/INT1/PMA4 (io), 48 RB0/FLT0/INT0 (io), 49 RD7/PMD7/~{SS2} (io), 50 RD6/PMD6/SCK2/SCL2 (io), 51 RD5/PMD5/SDI2/SDA2 (io), 52 RD4/PMD4/SDO2 (io), 53 RD3/PMD3 (io), 54 RD2/PMD2 (io), 55 RD1/PMD1 (io), 56 VSS (power), 57 VDD (power), 58 RD0/PMD0 (io), 59 RE7/PMA9/ECCP2/P2A (io), 60 RE6/PMA10/P1B (io), 61 RE5/PMA11/P1C (io), 62 RE4/PMA12/P3B (io), 63 RE3/PMA13/P3C/REFO (io), 64 RE2/PMBE/P2B (io)

## PIC18F66J50T-I/PT
designator U?
High Performance, 1-Mbit Flash USB Microcontroller with nanoWatt Technology, 64K Flash, 64-Pin TQFP, Industrial Temperature Range, Tape and Reel; Published: 29-Jan-2009; LatestRevisionDate: 02-Dec-2009; LatestRevisionNote: Updated to datesheet revision C, Oct-2009; DatasheetVersion: revC, Oct-2009; PackageVersion: revBB, Aug-2009; PackageReference: TQFP-PT64; Publisher: Altium Limited; PackageDescription: 64-Lead Thin Plastic Quad Flat Pack (PT) - 10x10x1mm Body, 2.00mm [TQFP]; Supplier 1: Digi-Key; Supplier Part Number 1: PIC18F66J50T-I/PTTR-ND; Code_JEDEC: MS-026; ComponentLink1Description: Datasheet; ComponentLink1URL: http://ww1.microchip.com/downloads/en/DeviceDoc/39775c.pdf; ComponentLink2Description: Packaging Specification; ComponentLink2URL: http://www.microchip.com/stellent/groups/techpub_sg/documents/packagingspec/en012702.pdf; ComponentLink3Description: Microchip.com Home; ComponentLink3URL: http://www.microchip.com/
footprint TQFP-PT64_N (Thin QFP, 64-Leads, Body 10x10mm, Pitch 0.5mm, IPC Medium Density)
footprint TQFP-PT64_L (Thin QFP, 64-Leads, Body 10x10mm, Pitch 0.5mm, IPC High Density)
footprint TQFP-PT64_M (Thin QFP, 64-Leads, Body 10x10mm, Pitch 0.5mm, IPC Low Density)
pins: 1 RE1/PMWR/P2C (io), 2 RE0/PMRD/P2D (io), 3 RG0/PMA8/ECCP3/P3A (io), 4 RG1/PMA7/TX2/CK2 (io), 5 RG2/PMA6/RX2/DT2 (io), 6 RG3/PMCS1/CCP4/P3D (io), 7 ~{MCLR} (in), 8 RG4/PMCS2/CCP5/P1D (io), 9 VSS (power), 10 VDDCORE/VCAP (power), 11 RF7/~{SS1}/C1OUT (io), 12 RF6/AN11/C1INA (io), 13 RF5/AN10/C1INB/CVREF (io), 14 RF4/D+ (io), 15 RF3/D- (io), 16 RF2/PMA5/AN7/C2INB (io), 17 VUSB (power), 18 ENVREG (in), 19 AVDD (power), 20 AVSS (power), 21 RA3/AN3/VREF+ (io), 22 RA2/AN2/VREF- (io), 23 RA1/AN1 (io), 24 RA0/AN0 (io), 25 VSS (power), 26 VDD (power), 27 RA5/AN4/C2INA (io), 28 RA4/T0CKI (io), 29 RC1/T1OSI/ECCP2/P2A (io), 30 RC0/T1OSO/T13CKI (io), 31 RC6/TX1/CK1 (io), 32 RC7/RX1/DT1 (io), 33 RC2/ECCP1/P1A (io), 34 RC3/SCK1/SCL1 (io), 35 RC4/SDI1/SDA1 (io), 36 RC5/SDO1/C2OUT (io), 37 RB7/KBI3/PGD (io), 38 VDD (power), 39 OSC1/CLKI/RA7 (io), 40 OSC2/CLKO/RA6 (io), 41 VSS (power), 42 RB6/KBI2/PGC (io), 43 RB5/KBI1/PMA0 (io), 44 RB4/KBI0/PMA1 (io), 45 RB3/INT3/PMA2 (io), 46 RB2/INT2/PMA3 (io), 47 RB1/INT1/PMA4 (io), 48 RB0/FLT0/INT0 (io), 49 RD7/PMD7/~{SS2} (io), 50 RD6/PMD6/SCK2/SCL2 (io), 51 RD5/PMD5/SDI2/SDA2 (io), 52 RD4/PMD4/SDO2 (io), 53 RD3/PMD3 (io), 54 RD2/PMD2 (io), 55 RD1/PMD1 (io), 56 VSS (power), 57 VDD (power), 58 RD0/PMD0 (io), 59 RE7/PMA9/ECCP2/P2A (io), 60 RE6/PMA10/P1B (io), 61 RE5/PMA11/P1C (io), 62 RE4/PMA12/P3B (io), 63 RE3/PMA13/P3C/REFO (io), 64 RE2/PMBE/P2B (io)

## PIC18F66J55-I/PT
designator U?
High Performance, 1-Mbit Flash USB Microcontroller with nanoWatt Technology, 96K Flash, 64-Pin TQFP, Industrial Temperature Range; Published: 29-Jan-2009; LatestRevisionDate: 02-Dec-2009; LatestRevisionNote: Updated to datesheet revision C, Oct-2009; DatasheetVersion: revC, Oct-2009; PackageVersion: revBB, Aug-2009; PackageReference: TQFP-PT64; Publisher: Altium Limited; PackageDescription: 64-Lead Thin Plastic Quad Flat Pack (PT) - 10x10x1mm Body, 2.00mm [TQFP]; Supplier 1: Digi-Key; Supplier Part Number 1: PIC18F66J55-I/PT-ND; Supplier 2: Farnell; Supplier Part Number 2: 1439556; Code_JEDEC: MS-026; ComponentLink1Description: Datasheet; ComponentLink1URL: http://ww1.microchip.com/downloads/en/DeviceDoc/39775c.pdf; ComponentLink2Description: Packaging Specification; ComponentLink2URL: http://www.microchip.com/stellent/groups/techpub_sg/documents/packagingspec/en012702.pdf; ComponentLink3Description: Microchip.com Home; ComponentLink3URL: http://www.microchip.com/
footprint TQFP-PT64_N (Thin QFP, 64-Leads, Body 10x10mm, Pitch 0.5mm, IPC Medium Density)
footprint TQFP-PT64_L (Thin QFP, 64-Leads, Body 10x10mm, Pitch 0.5mm, IPC High Density)
footprint TQFP-PT64_M (Thin QFP, 64-Leads, Body 10x10mm, Pitch 0.5mm, IPC Low Density)
pins: 1 RE1/PMWR/P2C (io), 2 RE0/PMRD/P2D (io), 3 RG0/PMA8/ECCP3/P3A (io), 4 RG1/PMA7/TX2/CK2 (io), 5 RG2/PMA6/RX2/DT2 (io), 6 RG3/PMCS1/CCP4/P3D (io), 7 ~{MCLR} (in), 8 RG4/PMCS2/CCP5/P1D (io), 9 VSS (power), 10 VDDCORE/VCAP (power), 11 RF7/~{SS1}/C1OUT (io), 12 RF6/AN11/C1INA (io), 13 RF5/AN10/C1INB/CVREF (io), 14 RF4/D+ (io), 15 RF3/D- (io), 16 RF2/PMA5/AN7/C2INB (io), 17 VUSB (power), 18 ENVREG (in), 19 AVDD (power), 20 AVSS (power), 21 RA3/AN3/VREF+ (io), 22 RA2/AN2/VREF- (io), 23 RA1/AN1 (io), 24 RA0/AN0 (io), 25 VSS (power), 26 VDD (power), 27 RA5/AN4/C2INA (io), 28 RA4/T0CKI (io), 29 RC1/T1OSI/ECCP2/P2A (io), 30 RC0/T1OSO/T13CKI (io), 31 RC6/TX1/CK1 (io), 32 RC7/RX1/DT1 (io), 33 RC2/ECCP1/P1A (io), 34 RC3/SCK1/SCL1 (io), 35 RC4/SDI1/SDA1 (io), 36 RC5/SDO1/C2OUT (io), 37 RB7/KBI3/PGD (io), 38 VDD (power), 39 OSC1/CLKI/RA7 (io), 40 OSC2/CLKO/RA6 (io), 41 VSS (power), 42 RB6/KBI2/PGC (io), 43 RB5/KBI1/PMA0 (io), 44 RB4/KBI0/PMA1 (io), 45 RB3/INT3/PMA2 (io), 46 RB2/INT2/PMA3 (io), 47 RB1/INT1/PMA4 (io), 48 RB0/FLT0/INT0 (io), 49 RD7/PMD7/~{SS2} (io), 50 RD6/PMD6/SCK2/SCL2 (io), 51 RD5/PMD5/SDI2/SDA2 (io), 52 RD4/PMD4/SDO2 (io), 53 RD3/PMD3 (io), 54 RD2/PMD2 (io), 55 RD1/PMD1 (io), 56 VSS (power), 57 VDD (power), 58 RD0/PMD0 (io), 59 RE7/PMA9/ECCP2/P2A (io), 60 RE6/PMA10/P1B (io), 61 RE5/PMA11/P1C (io), 62 RE4/PMA12/P3B (io), 63 RE3/PMA13/P3C/REFO (io), 64 RE2/PMBE/P2B (io)

## PIC18F66J55T-I/PT
designator U?
High Performance, 1-Mbit Flash USB Microcontroller with nanoWatt Technology, 96K Flash, 64-Pin TQFP, Industrial Temperature Range, Tape and Reel; Published: 29-Jan-2009; LatestRevisionDate: 02-Dec-2009; LatestRevisionNote: Updated to datesheet revision C, Oct-2009; DatasheetVersion: revC, Oct-2009; PackageVersion: revBB, Aug-2009; PackageReference: TQFP-PT64; Publisher: Altium Limited; PackageDescription: 64-Lead Thin Plastic Quad Flat Pack (PT) - 10x10x1mm Body, 2.00mm [TQFP]; Supplier 1: Digi-Key; Supplier Part Number 1: PIC18F66J55T-I/PTTR-ND; Code_JEDEC: MS-026; ComponentLink1Description: Datasheet; ComponentLink1URL: http://ww1.microchip.com/downloads/en/DeviceDoc/39775c.pdf; ComponentLink2Description: Packaging Specification; ComponentLink2URL: http://www.microchip.com/stellent/groups/techpub_sg/documents/packagingspec/en012702.pdf; ComponentLink3Description: Microchip.com Home; ComponentLink3URL: http://www.microchip.com/
footprint TQFP-PT64_N (Thin QFP, 64-Leads, Body 10x10mm, Pitch 0.5mm, IPC Medium Density)
footprint TQFP-PT64_L (Thin QFP, 64-Leads, Body 10x10mm, Pitch 0.5mm, IPC High Density)
footprint TQFP-PT64_M (Thin QFP, 64-Leads, Body 10x10mm, Pitch 0.5mm, IPC Low Density)
pins: 1 RE1/PMWR/P2C (io), 2 RE0/PMRD/P2D (io), 3 RG0/PMA8/ECCP3/P3A (io), 4 RG1/PMA7/TX2/CK2 (io), 5 RG2/PMA6/RX2/DT2 (io), 6 RG3/PMCS1/CCP4/P3D (io), 7 ~{MCLR} (in), 8 RG4/PMCS2/CCP5/P1D (io), 9 VSS (power), 10 VDDCORE/VCAP (power), 11 RF7/~{SS1}/C1OUT (io), 12 RF6/AN11/C1INA (io), 13 RF5/AN10/C1INB/CVREF (io), 14 RF4/D+ (io), 15 RF3/D- (io), 16 RF2/PMA5/AN7/C2INB (io), 17 VUSB (power), 18 ENVREG (in), 19 AVDD (power), 20 AVSS (power), 21 RA3/AN3/VREF+ (io), 22 RA2/AN2/VREF- (io), 23 RA1/AN1 (io), 24 RA0/AN0 (io), 25 VSS (power), 26 VDD (power), 27 RA5/AN4/C2INA (io), 28 RA4/T0CKI (io), 29 RC1/T1OSI/ECCP2/P2A (io), 30 RC0/T1OSO/T13CKI (io), 31 RC6/TX1/CK1 (io), 32 RC7/RX1/DT1 (io), 33 RC2/ECCP1/P1A (io), 34 RC3/SCK1/SCL1 (io), 35 RC4/SDI1/SDA1 (io), 36 RC5/SDO1/C2OUT (io), 37 RB7/KBI3/PGD (io), 38 VDD (power), 39 OSC1/CLKI/RA7 (io), 40 OSC2/CLKO/RA6 (io), 41 VSS (power), 42 RB6/KBI2/PGC (io), 43 RB5/KBI1/PMA0 (io), 44 RB4/KBI0/PMA1 (io), 45 RB3/INT3/PMA2 (io), 46 RB2/INT2/PMA3 (io), 47 RB1/INT1/PMA4 (io), 48 RB0/FLT0/INT0 (io), 49 RD7/PMD7/~{SS2} (io), 50 RD6/PMD6/SCK2/SCL2 (io), 51 RD5/PMD5/SDI2/SDA2 (io), 52 RD4/PMD4/SDO2 (io), 53 RD3/PMD3 (io), 54 RD2/PMD2 (io), 55 RD1/PMD1 (io), 56 VSS (power), 57 VDD (power), 58 RD0/PMD0 (io), 59 RE7/PMA9/ECCP2/P2A (io), 60 RE6/PMA10/P1B (io), 61 RE5/PMA11/P1C (io), 62 RE4/PMA12/P3B (io), 63 RE3/PMA13/P3C/REFO (io), 64 RE2/PMBE/P2B (io)

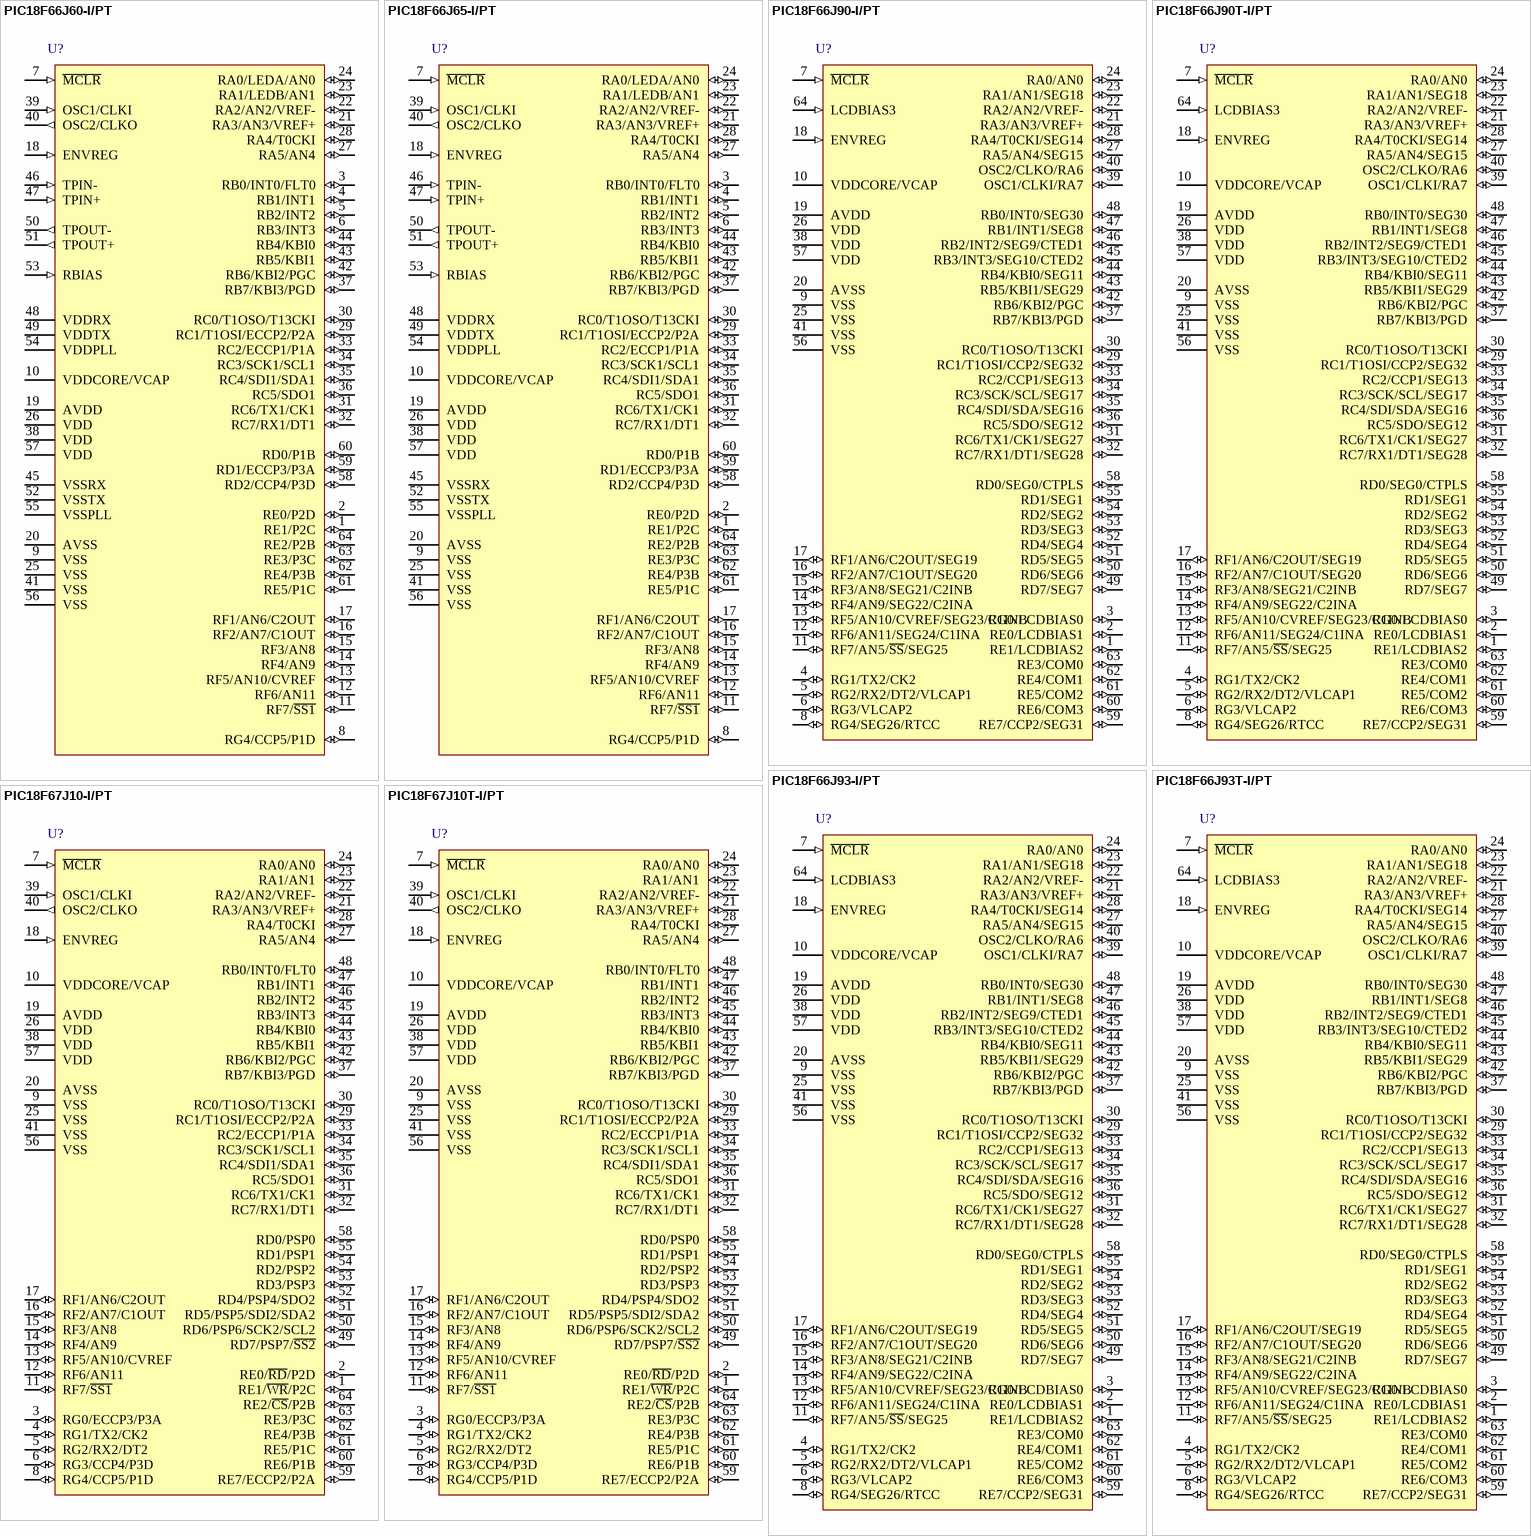
[diagram p25: symbols PIC18F66J60-I/PT to PIC18F67J10T-I/PT]

## PIC18F66J60-I/PT
designator U?
High Performance, 1-Mbit Flash Microcontroller with Ethernet, 64K Flash, 64-Pin TQFP, Industrial Temperature Range; Published: 29-Jan-2009; LatestRevisionDate: 02-Dec-2009; LatestRevisionNote: Updated to datasheet revision E, Oct-2009; DatasheetVersion: revE, Oct-2009; PackageVersion: revBB, Aug-2009; PackageReference: TQFP-PT64; Publisher: Altium Limited; PackageDescription: 64-Lead Thin Plastic Quad Flat Pack (PT) - 10x10x1mm Body, 2.00mm [TQFP]; Supplier 1: Digi-Key; Supplier Part Number 1: PIC18F66J60-I/PT-ND; Supplier 2: Farnell; Supplier Part Number 2: 1332282; Code_JEDEC: MS-026; ComponentLink1Description: Datasheet; ComponentLink1URL: http://ww1.microchip.com/downloads/en/DeviceDoc/39762e.pdf; ComponentLink2Description: Packaging Specification; ComponentLink2URL: http://www.microchip.com/stellent/groups/techpub_sg/documents/packagingspec/en012702.pdf; ComponentLink3Description: Microchip.com Home; ComponentLink3URL: http://www.microchip.com/
footprint TQFP-PT64_N (Thin QFP, 64-Leads, Body 10x10mm, Pitch 0.5mm, IPC Medium Density)
footprint TQFP-PT64_L (Thin QFP, 64-Leads, Body 10x10mm, Pitch 0.5mm, IPC High Density)
footprint TQFP-PT64_M (Thin QFP, 64-Leads, Body 10x10mm, Pitch 0.5mm, IPC Low Density)
pins: 1 RE1/P2C (io), 2 RE0/P2D (io), 3 RB0/INT0/FLT0 (io), 4 RB1/INT1 (io), 5 RB2/INT2 (io), 6 RB3/INT3 (io), 7 ~{MCLR} (in), 8 RG4/CCP5/P1D (io), 9 VSS (power), 10 VDDCORE/VCAP (power), 11 RF7/~{SS1} (io), 12 RF6/AN11 (io), 13 RF5/AN10/CVREF (io), 14 RF4/AN9 (io), 15 RF3/AN8 (io), 16 RF2/AN7/C1OUT (io), 17 RF1/AN6/C2OUT (io), 18 ENVREG (in), 19 AVDD (power), 20 AVSS (power), 21 RA3/AN3/VREF+ (io), 22 RA2/AN2/VREF- (io), 23 RA1/LEDB/AN1 (io), 24 RA0/LEDA/AN0 (io), 25 VSS (power), 26 VDD (power), 27 RA5/AN4 (io), 28 RA4/T0CKI (io), 29 RC1/T1OSI/ECCP2/P2A (io), 30 RC0/T1OSO/T13CKI (io), 31 RC6/TX1/CK1 (io), 32 RC7/RX1/DT1 (io), 33 RC2/ECCP1/P1A (io), 34 RC3/SCK1/SCL1 (io), 35 RC4/SDI1/SDA1 (io), 36 RC5/SDO1 (io), 37 RB7/KBI3/PGD (io), 38 VDD (power), 39 OSC1/CLKI (in), 40 OSC2/CLKO (out), 41 VSS (power), 42 RB6/KBI2/PGC (io), 43 RB5/KBI1 (io), 44 RB4/KBI0 (io), 45 VSSRX (power), 46 TPIN- (in), 47 TPIN+ (in), 48 VDDRX (power), 49 VDDTX (power), 50 TPOUT- (out), 51 TPOUT+ (out), 52 VSSTX (power), 53 RBIAS (in), 54 VDDPLL (power), 55 VSSPLL (power), 56 VSS (power), 57 VDD (power), 58 RD2/CCP4/P3D (io), 59 RD1/ECCP3/P3A (io), 60 RD0/P1B (io), 61 RE5/P1C (io), 62 RE4/P3B (io), 63 RE3/P3C (io), 64 RE2/P2B (io)

## PIC18F66J65-I/PT
designator U?
High Performance, 1-Mbit Flash Microcontroller with Ethernet, 96K Flash, 64-Pin TQFP, Industrial Temperature Range; Published: 29-Jan-2009; LatestRevisionDate: 02-Dec-2009; LatestRevisionNote: Updated to datasheet revision E, Oct-2009; DatasheetVersion: revE, Oct-2009; PackageVersion: revBB, Aug-2009; PackageReference: TQFP-PT64; Publisher: Altium Limited; PackageDescription: 64-Lead Thin Plastic Quad Flat Pack (PT) - 10x10x1mm Body, 2.00mm [TQFP]; Supplier 1: Digi-Key; Supplier Part Number 1: PIC18F66J65-I/PT-ND; Supplier 2: Farnell; Supplier Part Number 2: 1579612; Code_JEDEC: MS-026; ComponentLink1Description: Datasheet; ComponentLink1URL: http://ww1.microchip.com/downloads/en/DeviceDoc/39762e.pdf; ComponentLink2Description: Packaging Specification; ComponentLink2URL: http://www.microchip.com/stellent/groups/techpub_sg/documents/packagingspec/en012702.pdf; ComponentLink3Description: Microchip.com Home; ComponentLink3URL: http://www.microchip.com/
footprint TQFP-PT64_N (Thin QFP, 64-Leads, Body 10x10mm, Pitch 0.5mm, IPC Medium Density)
footprint TQFP-PT64_L (Thin QFP, 64-Leads, Body 10x10mm, Pitch 0.5mm, IPC High Density)
footprint TQFP-PT64_M (Thin QFP, 64-Leads, Body 10x10mm, Pitch 0.5mm, IPC Low Density)
pins: 1 RE1/P2C (io), 2 RE0/P2D (io), 3 RB0/INT0/FLT0 (io), 4 RB1/INT1 (io), 5 RB2/INT2 (io), 6 RB3/INT3 (io), 7 ~{MCLR} (in), 8 RG4/CCP5/P1D (io), 9 VSS (power), 10 VDDCORE/VCAP (power), 11 RF7/~{SS1} (io), 12 RF6/AN11 (io), 13 RF5/AN10/CVREF (io), 14 RF4/AN9 (io), 15 RF3/AN8 (io), 16 RF2/AN7/C1OUT (io), 17 RF1/AN6/C2OUT (io), 18 ENVREG (in), 19 AVDD (power), 20 AVSS (power), 21 RA3/AN3/VREF+ (io), 22 RA2/AN2/VREF- (io), 23 RA1/LEDB/AN1 (io), 24 RA0/LEDA/AN0 (io), 25 VSS (power), 26 VDD (power), 27 RA5/AN4 (io), 28 RA4/T0CKI (io), 29 RC1/T1OSI/ECCP2/P2A (io), 30 RC0/T1OSO/T13CKI (io), 31 RC6/TX1/CK1 (io), 32 RC7/RX1/DT1 (io), 33 RC2/ECCP1/P1A (io), 34 RC3/SCK1/SCL1 (io), 35 RC4/SDI1/SDA1 (io), 36 RC5/SDO1 (io), 37 RB7/KBI3/PGD (io), 38 VDD (power), 39 OSC1/CLKI (in), 40 OSC2/CLKO (out), 41 VSS (power), 42 RB6/KBI2/PGC (io), 43 RB5/KBI1 (io), 44 RB4/KBI0 (io), 45 VSSRX (power), 46 TPIN- (in), 47 TPIN+ (in), 48 VDDRX (power), 49 VDDTX (power), 50 TPOUT- (out), 51 TPOUT+ (out), 52 VSSTX (power), 53 RBIAS (in), 54 VDDPLL (power), 55 VSSPLL (power), 56 VSS (power), 57 VDD (power), 58 RD2/CCP4/P3D (io), 59 RD1/ECCP3/P3A (io), 60 RD0/P1B (io), 61 RE5/P1C (io), 62 RE4/P3B (io), 63 RE3/P3C (io), 64 RE2/P2B (io)

## PIC18F66J90-I/PT
designator U?
High Performance Microcontroller with LCD Driver and nanoWatt Technology, 64-pin TQFP, Industrial Temperature; Published: 2-Dec-2009; DatasheetVersion: revC, Feb-2009; PackageVersion: revBB, Aug-2009; PackageReference: TQFP-PT64; Publisher: Altium Limited; PackageDescription: 64-Lead Thin Plastic Quad Flat Pack (PT) - 10x10x1mm Body, 2.00mm [TQFP]; Supplier 1: Digi-Key; Supplier Part Number 1: PIC18F66J90-I/PT-ND; Supplier 2: Farnell; Supplier Part Number 2: 1698922; Code_JEDEC: MS-026; ComponentLink1Description: Datasheet; ComponentLink1URL: http://ww1.microchip.com/downloads/en/DeviceDoc/39933C.pdf; ComponentLink2Description: Packaging Specification; ComponentLink2URL: http://www.microchip.com/stellent/groups/techpub_sg/documents/packagingspec/en012702.pdf; ComponentLink3Description: Microchip.com Home; ComponentLink3URL: http://www.microchip.com/
footprint TQFP-PT64_N (Thin QFP, 64-Leads, Body 10x10mm, Pitch 0.5mm, IPC Medium Density)
footprint TQFP-PT64_L (Thin QFP, 64-Leads, Body 10x10mm, Pitch 0.5mm, IPC High Density)
footprint TQFP-PT64_M (Thin QFP, 64-Leads, Body 10x10mm, Pitch 0.5mm, IPC Low Density)
pins: 1 RE1/LCDBIAS2 (io), 2 RE0/LCDBIAS1 (io), 3 RG0/LCDBIAS0 (io), 4 RG1/TX2/CK2 (io), 5 RG2/RX2/DT2/VLCAP1 (io), 6 RG3/VLCAP2 (io), 7 ~{MCLR} (in), 8 RG4/SEG26/RTCC (io), 9 VSS (power), 10 VDDCORE/VCAP (power), 11 RF7/AN5/~{SS}/SEG25 (io), 12 RF6/AN11/SEG24/C1INA (io), 13 RF5/AN10/CVREF/SEG23/C1INB (io), 14 RF4/AN9/SEG22/C2INA (io), 15 RF3/AN8/SEG21/C2INB (io), 16 RF2/AN7/C1OUT/SEG20 (io), 17 RF1/AN6/C2OUT/SEG19 (io), 18 ENVREG (in), 19 AVDD (power), 20 AVSS (power), 21 RA3/AN3/VREF+ (io), 22 RA2/AN2/VREF- (io), 23 RA1/AN1/SEG18 (io), 24 RA0/AN0 (io), 25 VSS (power), 26 VDD (power), 27 RA5/AN4/SEG15 (io), 28 RA4/T0CKI/SEG14 (io), 29 RC1/T1OSI/CCP2/SEG32 (io), 30 RC0/T1OSO/T13CKI (io), 31 RC6/TX1/CK1/SEG27 (io), 32 RC7/RX1/DT1/SEG28 (io), 33 RC2/CCP1/SEG13 (io), 34 RC3/SCK/SCL/SEG17 (io), 35 RC4/SDI/SDA/SEG16 (io), 36 RC5/SDO/SEG12 (io), 37 RB7/KBI3/PGD (io), 38 VDD (power), 39 OSC1/CLKI/RA7 (io), 40 OSC2/CLKO/RA6 (io), 41 VSS (power), 42 RB6/KBI2/PGC (io), 43 RB5/KBI1/SEG29 (io), 44 RB4/KBI0/SEG11 (io), 45 RB3/INT3/SEG10/CTED2 (io), 46 RB2/INT2/SEG9/CTED1 (io), 47 RB1/INT1/SEG8 (io), 48 RB0/INT0/SEG30 (io), 49 RD7/SEG7 (io), 50 RD6/SEG6 (io), 51 RD5/SEG5 (io), 52 RD4/SEG4 (io), 53 RD3/SEG3 (io), 54 RD2/SEG2 (io), 55 RD1/SEG1 (io), 56 VSS (power), 57 VDD (power), 58 RD0/SEG0/CTPLS (io), 59 RE7/CCP2/SEG31 (io), 60 RE6/COM3 (io), 61 RE5/COM2 (io), 62 RE4/COM1 (io), 63 RE3/COM0 (io), 64 LCDBIAS3 (in)

## PIC18F66J90T-I/PT
designator U?
High Performance Microcontroller with LCD Driver and nanoWatt Technology, 64-pin TQFP, Industrial Temperature, Tape and Reel; Published: 2-Dec-2009; DatasheetVersion: revC, Feb-2009; PackageVersion: revBB, Aug-2009; PackageReference: TQFP-PT64; Publisher: Altium Limited; PackageDescription: 64-Lead Thin Plastic Quad Flat Pack (PT) - 10x10x1mm Body, 2.00mm [TQFP]; Supplier 1: Digi-Key; Supplier Part Number 1: PIC18F66J90T-I/PT-ND; Code_JEDEC: MS-026; ComponentLink1Description: Datasheet; ComponentLink1URL: http://ww1.microchip.com/downloads/en/DeviceDoc/39933C.pdf; ComponentLink2Description: Packaging Specification; ComponentLink2URL: http://www.microchip.com/stellent/groups/techpub_sg/documents/packagingspec/en012702.pdf; ComponentLink3Description: Microchip.com Home; ComponentLink3URL: http://www.microchip.com/
footprint TQFP-PT64_N (Thin QFP, 64-Leads, Body 10x10mm, Pitch 0.5mm, IPC Medium Density)
footprint TQFP-PT64_L (Thin QFP, 64-Leads, Body 10x10mm, Pitch 0.5mm, IPC High Density)
footprint TQFP-PT64_M (Thin QFP, 64-Leads, Body 10x10mm, Pitch 0.5mm, IPC Low Density)
pins: 1 RE1/LCDBIAS2 (io), 2 RE0/LCDBIAS1 (io), 3 RG0/LCDBIAS0 (io), 4 RG1/TX2/CK2 (io), 5 RG2/RX2/DT2/VLCAP1 (io), 6 RG3/VLCAP2 (io), 7 ~{MCLR} (in), 8 RG4/SEG26/RTCC (io), 9 VSS (power), 10 VDDCORE/VCAP (power), 11 RF7/AN5/~{SS}/SEG25 (io), 12 RF6/AN11/SEG24/C1INA (io), 13 RF5/AN10/CVREF/SEG23/C1INB (io), 14 RF4/AN9/SEG22/C2INA (io), 15 RF3/AN8/SEG21/C2INB (io), 16 RF2/AN7/C1OUT/SEG20 (io), 17 RF1/AN6/C2OUT/SEG19 (io), 18 ENVREG (in), 19 AVDD (power), 20 AVSS (power), 21 RA3/AN3/VREF+ (io), 22 RA2/AN2/VREF- (io), 23 RA1/AN1/SEG18 (io), 24 RA0/AN0 (io), 25 VSS (power), 26 VDD (power), 27 RA5/AN4/SEG15 (io), 28 RA4/T0CKI/SEG14 (io), 29 RC1/T1OSI/CCP2/SEG32 (io), 30 RC0/T1OSO/T13CKI (io), 31 RC6/TX1/CK1/SEG27 (io), 32 RC7/RX1/DT1/SEG28 (io), 33 RC2/CCP1/SEG13 (io), 34 RC3/SCK/SCL/SEG17 (io), 35 RC4/SDI/SDA/SEG16 (io), 36 RC5/SDO/SEG12 (io), 37 RB7/KBI3/PGD (io), 38 VDD (power), 39 OSC1/CLKI/RA7 (io), 40 OSC2/CLKO/RA6 (io), 41 VSS (power), 42 RB6/KBI2/PGC (io), 43 RB5/KBI1/SEG29 (io), 44 RB4/KBI0/SEG11 (io), 45 RB3/INT3/SEG10/CTED2 (io), 46 RB2/INT2/SEG9/CTED1 (io), 47 RB1/INT1/SEG8 (io), 48 RB0/INT0/SEG30 (io), 49 RD7/SEG7 (io), 50 RD6/SEG6 (io), 51 RD5/SEG5 (io), 52 RD4/SEG4 (io), 53 RD3/SEG3 (io), 54 RD2/SEG2 (io), 55 RD1/SEG1 (io), 56 VSS (power), 57 VDD (power), 58 RD0/SEG0/CTPLS (io), 59 RE7/CCP2/SEG31 (io), 60 RE6/COM3 (io), 61 RE5/COM2 (io), 62 RE4/COM1 (io), 63 RE3/COM0 (io), 64 LCDBIAS3 (in)

## PIC18F66J93-I/PT
designator U?
High Performance Microcontroller with LCD Driver, 12-Bit A/D and nanoWatt Technology, 64-pin TQFP, Industrial Temperature; Published: 2-Dec-2009; DatasheetVersion: revA, Jun-2009; PackageVersion: revBB, Aug-2009; PackageReference: TQFP-PT64; Publisher: Altium Limited; PackageDescription: 64-Lead Thin Plastic Quad Flat Pack (PT) - 10x10x1mm Body, 2.00mm [TQFP]; Supplier 1: Digi-Key; Supplier Part Number 1: PIC18F66J93-I/PT-ND; Supplier 2: Farnell; Supplier Part Number 2: 1740228; Code_JEDEC: MS-026; ComponentLink1Description: Datasheet; ComponentLink1URL: http://ww1.microchip.com/downloads/en/DeviceDoc/39948a.pdf; ComponentLink2Description: Packaging Specification; ComponentLink2URL: http://www.microchip.com/stellent/groups/techpub_sg/documents/packagingspec/en012702.pdf; ComponentLink3Description: Microchip.com Home; ComponentLink3URL: http://www.microchip.com/
footprint TQFP-PT64_N (Thin QFP, 64-Leads, Body 10x10mm, Pitch 0.5mm, IPC Medium Density)
footprint TQFP-PT64_L (Thin QFP, 64-Leads, Body 10x10mm, Pitch 0.5mm, IPC High Density)
footprint TQFP-PT64_M (Thin QFP, 64-Leads, Body 10x10mm, Pitch 0.5mm, IPC Low Density)
pins: 1 RE1/LCDBIAS2 (io), 2 RE0/LCDBIAS1 (io), 3 RG0/LCDBIAS0 (io), 4 RG1/TX2/CK2 (io), 5 RG2/RX2/DT2/VLCAP1 (io), 6 RG3/VLCAP2 (io), 7 ~{MCLR} (in), 8 RG4/SEG26/RTCC (io), 9 VSS (power), 10 VDDCORE/VCAP (power), 11 RF7/AN5/~{SS}/SEG25 (io), 12 RF6/AN11/SEG24/C1INA (io), 13 RF5/AN10/CVREF/SEG23/C1INB (io), 14 RF4/AN9/SEG22/C2INA (io), 15 RF3/AN8/SEG21/C2INB (io), 16 RF2/AN7/C1OUT/SEG20 (io), 17 RF1/AN6/C2OUT/SEG19 (io), 18 ENVREG (in), 19 AVDD (power), 20 AVSS (power), 21 RA3/AN3/VREF+ (io), 22 RA2/AN2/VREF- (io), 23 RA1/AN1/SEG18 (io), 24 RA0/AN0 (io), 25 VSS (power), 26 VDD (power), 27 RA5/AN4/SEG15 (io), 28 RA4/T0CKI/SEG14 (io), 29 RC1/T1OSI/CCP2/SEG32 (io), 30 RC0/T1OSO/T13CKI (io), 31 RC6/TX1/CK1/SEG27 (io), 32 RC7/RX1/DT1/SEG28 (io), 33 RC2/CCP1/SEG13 (io), 34 RC3/SCK/SCL/SEG17 (io), 35 RC4/SDI/SDA/SEG16 (io), 36 RC5/SDO/SEG12 (io), 37 RB7/KBI3/PGD (io), 38 VDD (power), 39 OSC1/CLKI/RA7 (io), 40 OSC2/CLKO/RA6 (io), 41 VSS (power), 42 RB6/KBI2/PGC (io), 43 RB5/KBI1/SEG29 (io), 44 RB4/KBI0/SEG11 (io), 45 RB3/INT3/SEG10/CTED2 (io), 46 RB2/INT2/SEG9/CTED1 (io), 47 RB1/INT1/SEG8 (io), 48 RB0/INT0/SEG30 (io), 49 RD7/SEG7 (io), 50 RD6/SEG6 (io), 51 RD5/SEG5 (io), 52 RD4/SEG4 (io), 53 RD3/SEG3 (io), 54 RD2/SEG2 (io), 55 RD1/SEG1 (io), 56 VSS (power), 57 VDD (power), 58 RD0/SEG0/CTPLS (io), 59 RE7/CCP2/SEG31 (io), 60 RE6/COM3 (io), 61 RE5/COM2 (io), 62 RE4/COM1 (io), 63 RE3/COM0 (io), 64 LCDBIAS3 (in)

## PIC18F66J93T-I/PT
designator U?
High Performance Microcontroller with LCD Driver, 12-Bit A/D and nanoWatt Technology, 64-pin TQFP, Industrial Temperature, Tape and Reel; Published: 2-Dec-2009; DatasheetVersion: revA, Jun-2009; PackageVersion: revBB, Aug-2009; PackageReference: TQFP-PT64; Publisher: Altium Limited; PackageDescription: 64-Lead Thin Plastic Quad Flat Pack (PT) - 10x10x1mm Body, 2.00mm [TQFP]; Supplier 1: Digi-Key; Supplier Part Number 1: PIC18F66J93T-I/PT-ND; Code_JEDEC: MS-026; ComponentLink1Description: Datasheet; ComponentLink1URL: http://ww1.microchip.com/downloads/en/DeviceDoc/39948a.pdf; ComponentLink2Description: Packaging Specification; ComponentLink2URL: http://www.microchip.com/stellent/groups/techpub_sg/documents/packagingspec/en012702.pdf; ComponentLink3Description: Microchip.com Home; ComponentLink3URL: http://www.microchip.com/
footprint TQFP-PT64_N (Thin QFP, 64-Leads, Body 10x10mm, Pitch 0.5mm, IPC Medium Density)
footprint TQFP-PT64_L (Thin QFP, 64-Leads, Body 10x10mm, Pitch 0.5mm, IPC High Density)
footprint TQFP-PT64_M (Thin QFP, 64-Leads, Body 10x10mm, Pitch 0.5mm, IPC Low Density)
pins: 1 RE1/LCDBIAS2 (io), 2 RE0/LCDBIAS1 (io), 3 RG0/LCDBIAS0 (io), 4 RG1/TX2/CK2 (io), 5 RG2/RX2/DT2/VLCAP1 (io), 6 RG3/VLCAP2 (io), 7 ~{MCLR} (in), 8 RG4/SEG26/RTCC (io), 9 VSS (power), 10 VDDCORE/VCAP (power), 11 RF7/AN5/~{SS}/SEG25 (io), 12 RF6/AN11/SEG24/C1INA (io), 13 RF5/AN10/CVREF/SEG23/C1INB (io), 14 RF4/AN9/SEG22/C2INA (io), 15 RF3/AN8/SEG21/C2INB (io), 16 RF2/AN7/C1OUT/SEG20 (io), 17 RF1/AN6/C2OUT/SEG19 (io), 18 ENVREG (in), 19 AVDD (power), 20 AVSS (power), 21 RA3/AN3/VREF+ (io), 22 RA2/AN2/VREF- (io), 23 RA1/AN1/SEG18 (io), 24 RA0/AN0 (io), 25 VSS (power), 26 VDD (power), 27 RA5/AN4/SEG15 (io), 28 RA4/T0CKI/SEG14 (io), 29 RC1/T1OSI/CCP2/SEG32 (io), 30 RC0/T1OSO/T13CKI (io), 31 RC6/TX1/CK1/SEG27 (io), 32 RC7/RX1/DT1/SEG28 (io), 33 RC2/CCP1/SEG13 (io), 34 RC3/SCK/SCL/SEG17 (io), 35 RC4/SDI/SDA/SEG16 (io), 36 RC5/SDO/SEG12 (io), 37 RB7/KBI3/PGD (io), 38 VDD (power), 39 OSC1/CLKI/RA7 (io), 40 OSC2/CLKO/RA6 (io), 41 VSS (power), 42 RB6/KBI2/PGC (io), 43 RB5/KBI1/SEG29 (io), 44 RB4/KBI0/SEG11 (io), 45 RB3/INT3/SEG10/CTED2 (io), 46 RB2/INT2/SEG9/CTED1 (io), 47 RB1/INT1/SEG8 (io), 48 RB0/INT0/SEG30 (io), 49 RD7/SEG7 (io), 50 RD6/SEG6 (io), 51 RD5/SEG5 (io), 52 RD4/SEG4 (io), 53 RD3/SEG3 (io), 54 RD2/SEG2 (io), 55 RD1/SEG1 (io), 56 VSS (power), 57 VDD (power), 58 RD0/SEG0/CTPLS (io), 59 RE7/CCP2/SEG31 (io), 60 RE6/COM3 (io), 61 RE5/COM2 (io), 62 RE4/COM1 (io), 63 RE3/COM0 (io), 64 LCDBIAS3 (in)